# EAGLE library part CONNECTOR_6 (library CONNECTOR)
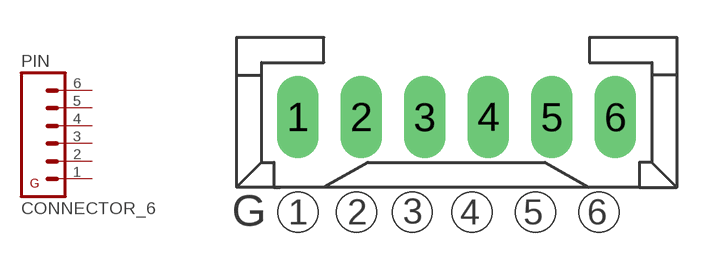
[diagram p0: symbol with the pads of CONNECOTR_6-STRAIGHT; footprint CONNECOTR_6-STRAIGHT]

Designator prefix PIN

## CONNECTOR_6  [CONNECOTR_6-STRAIGHT]
1  1  pas
2  2  pas
3  3  pas
4  4  pas
5  5  pas
6  6  pas

## Footprint CONNECOTR_6-STRAIGHT (pad centres in mm)
drill 1.1 long: 1 -6.35,0; 2 -3.81,0; 3 -1.27,0; 4 1.27,0; 5 3.81,0; 6 6.35,0